# Altium integrated library PRM1W-E12-D15-S.IntLib: 1 symbol
Pins are listed as number, name and electrical type; pins without a type are passive.

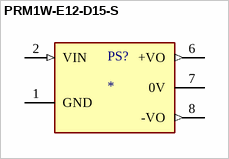
[diagram p0: symbol PRM1W-E12-D15-S]

## PRM1W-E12-D15-S
designator PS?
1 W, 8:1 Input Range, Single/Dual Regulated Output, 8 Pin SIP, 3000 Vdc Isolation, Dc-Dc Converter; MP: PRM1W-E12-D15-S; MF: {'manufacturer': u'CUI'}; Availability: Unavailable; Package: None; Value: *; Price: None
footprint CONV_PRM1W-E12-D15-S
pins: 1 GND (power), 2 VIN (in), 6 +VO (out), 7 0V, 8 -VO (out)